# Altium footprint library SMDinductor600.PcbLib: 1 footprints
Each footprint in its own frame and in the unit in brackets; x right, y up, seen from the top. Pads: shape width x height; smd on the part's side, far side on the other; paste and mask are expansions set on the pad; w line width, h text height; cw(c..) or ccw(c..) is an arc to the next point about the centre after c.
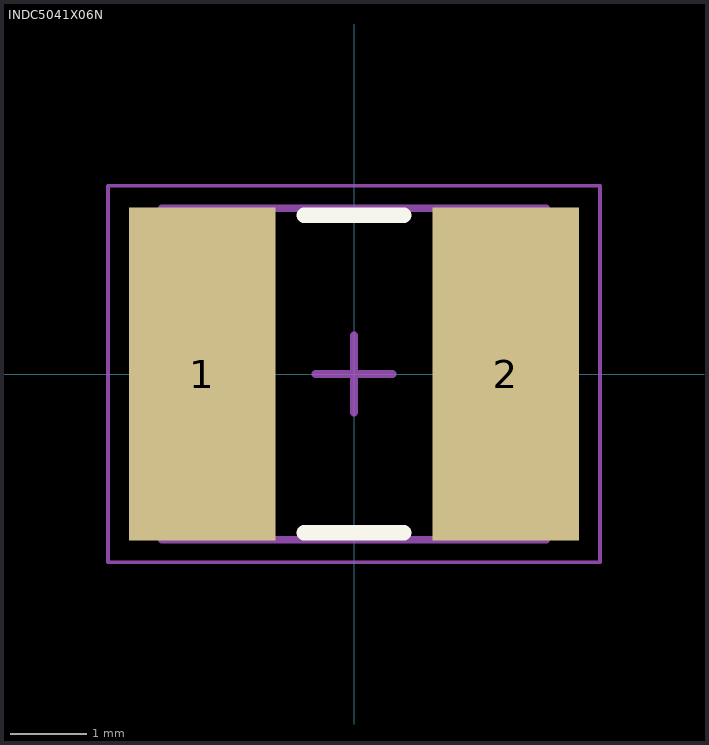
[diagram p0: the footprint, top view; thin cyan lines are the x and y axes]

## INDC5041X06N [mm] "Chip Inductor, 2-Leads, Body 5.00x4.06mm, IPC Medium Density"
height 0.6
pads (2):
  rect 1.91x4.33 smd: 1(-1.975,0) 2(1.975,0)
Top Overlay:
  lines w0.2: -0.65,-2.065 0.65,-2.065 ; -0.65,2.065 0.65,2.065
Mechanical 13:
  lines w0.1: -2.5,-2.155 2.5,-2.155 2.5,2.155 -2.5,2.155 -2.5,-2.155
Mechanical 15:
  lines w0.05: -3.2,-2.45 3.2,-2.45 3.2,2.45 -3.2,2.45 -3.2,-2.45
  lines w0.1: -0.5,0 0.5,0 ; 0,-0.5 0,0.5
3D body: height 0.6, standoff 0, extent 1.74,-2.155 2.5,2.155
3D body: height 0.6, standoff 0, extent -2.5,-2.155 -1.74,2.155
3D body: height 0.6, standoff 0, extent -1.74,-2.155 1.74,2.155